# EAGLE library part DC2337J5010AHF (library U-Anaren-DC2337J5010AHF-2-3GH-RF-coupler)
Anaren Xinger Series 10dB Directional Coupler
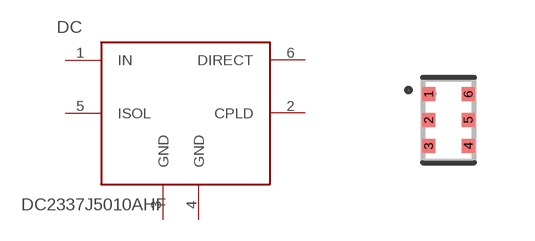
[diagram p0: symbol with the pads of ANAREN_C0810J5003AHF; footprint ANAREN_C0810J5003AHF]

Designator prefix DC

## DC2337J5010AHFDC2337J50 (VALUE: DC2337J5010)  [ANAREN_C0810J5003AHF]
1  IN  in
2  CPLD  out
3  GND
4  GND
5  ISOL  out
6  DIRECT  out

## Footprint ANAREN_C0810J5003AHF (pad centres in mm)
smd 0.33 x 0.35: 1 -0.495,0.65; 2 -0.495,0; 3 -0.495,-0.65; 4 0.495,-0.65; 5 0.495,0; 6 0.495,0.65